# Altium schematic symbol library CL10A475KO8NNNC.SchLib: 1 symbol
Pins are listed as number, name and electrical type; pins without a type are passive.

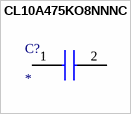
[diagram p0: symbol CL10A475KO8NNNC]

## CL10A475KO8NNNC
designator C?
Capacitor; Manufacturer_Name: SAMSUNG; Manufacturer_Part_Number: CL10A475KO8NNNC; Datasheet Link: https://rs.componentsearchengine.com/Datasheets/2/CL10A475KO8NNNC.pdf; Height: 0.9mm; Mouser Part Number: 187-CL10A475KO8NNNC; Mouser Price/Stock: https://www.mouser.co.uk/ProductDetail/Samsung-Electro-Mechanics/CL10A475KO8NNNC?qs=X6jEic%2FHinAbIjmLnFfqqQ%3D%3D; Arrow Part Number: CL10A475KO8NNNC; Arrow Price/Stock: https://www.arrow.com/en/products/cl10a475ko8nnnc/samsung-electro-mechanics?utm_currency=USD&region=europe; LCSC Part Number: C318563
footprint CAPC1608X90N
pins: 1, 2